# Altium schematic symbol library 2EDGV-5.0-04P-14-00A_H_.SchLib: 1 symbol
Pins are listed as number, name and electrical type; pins without a type are passive.

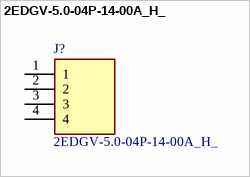
[diagram p0: symbol 2EDGV-5.0-04P-14-00A_H_]

## 2EDGV-5.0-04P-14-00A_H_
designator J?
Pluggable Terminal Blocks; Manufacturer_Name: Degson; Manufacturer_Part_Number: 2EDGV-5.0-04P-14-00A(H); Geometry.Height: 12.1mm; Mouser Part Number: *; Mouser Price/Stock: *; Arrow Part Number: *; Arrow Price/Stock: *; Datasheet Link: *
footprint RHDR4W100P0X500_1X4_2140X820X1210P
pins: 1, 2, 3, 4